# EAGLE library part LM43601PWPR (library SSW-130-01-G-S)
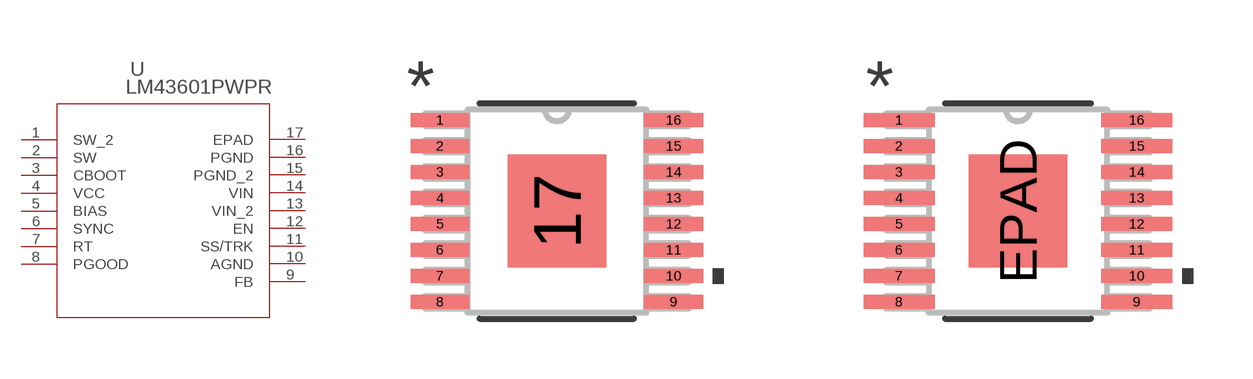
[diagram p11: symbol with the pads of PWP16_TEX; footprints PWP16_TEX, PWP16_TEX-M]

Designator prefix U

## LM43601PWPR (COPYRIGHT: Copyright (C) 2024 Ultra Librarian. All rights reserved.; MANUFACTURER_PART_NUMBER: LM43601PWPR; MFR_NAME: Texas Instruments)  [PWP16_TEX]
1  SW_2  out
2  SW  out
3  CBOOT  pas
4  VCC  pwr
5  BIAS  in
6  SYNC  in
7  RT  pas
8  PGOOD  out
9  FB  in
10  AGND  pwr
11  SS/TRK  pas
12  EN  in
13  VIN_2  in
14  VIN  in
15  PGND_2  pwr
16  PGND  pwr
17  EPAD  pas

## LM43601PWPRPWP16_TEX-M (COPYRIGHT: Copyright (C) 2024 Ultra Librarian. All rights reserved.; MANUFACTURER_PART_NUMBER: LM43601PWPR; MFR_NAME: Texas Instruments)  [PWP16_TEX-M]
1  SW_2  out
2  SW  out
3  CBOOT  pas
4  VCC  pwr
5  BIAS  in
6  SYNC  in
7  RT  pas
8  PGOOD  out
9  FB  in
10  AGND  pwr
11  SS/TRK  pas
12  EN  in
13  VIN_2  in
14  VIN  in
15  PGND_2  pwr
16  PGND  pwr
EPAD  EPAD  pas

## LM43601PWPRPWP16_TEX-L (COPYRIGHT: Copyright (C) 2024 Ultra Librarian. All rights reserved.; MANUFACTURER_PART_NUMBER: LM43601PWPR; MFR_NAME: Texas Instruments)  [PWP16_TEX-L]
Pads as for PWP16_TEX-M

## Footprint PWP16_TEX (pad centres in mm)
smd 1.473 x 0.356: 1 -2.921,2.275; 2 -2.921,1.625; 3 -2.921,0.975; 4 -2.921,0.325; 5 -2.921,-0.325; 6 -2.921,-0.975; 7 -2.921,-1.625; 8 -2.921,-2.275; 9 2.921,-2.275; 10 2.921,-1.625; 11 2.921,-0.975; 12 2.921,-0.325; 13 2.921,0.325; 14 2.921,0.975; 15 2.921,1.625; 16 2.921,2.275
smd 2.464 x 2.819: 17 0,0

## Footprint PWP16_TEX-M (pad centres in mm)
smd 1.778 x 0.356: 1 -2.972,2.275; 2 -2.972,1.625; 3 -2.972,0.975; 4 -2.972,0.325; 5 -2.972,-0.325; 6 -2.972,-0.975; 7 -2.972,-1.625; 8 -2.972,-2.275; 9 2.972,-2.275; 10 2.972,-1.625; 11 2.972,-0.975; 12 2.972,-0.325; 13 2.972,0.325; 14 2.972,0.975; 15 2.972,1.625; 16 2.972,2.275
smd 2.464 x 2.819: EPAD 0,0

## Footprint PWP16_TEX-L (pad centres in mm)
smd 1.168 x 0.305: 1 -2.87,2.275; 2 -2.87,1.625; 3 -2.87,0.975; 4 -2.87,0.325; 5 -2.87,-0.325; 6 -2.87,-0.975; 7 -2.87,-1.625; 8 -2.87,-2.275; 9 2.87,-2.275; 10 2.87,-1.625; 11 2.87,-0.975; 12 2.87,-0.325; 13 2.87,0.325; 14 2.87,0.975; 15 2.87,1.625; 16 2.87,2.275
smd 2.464 x 2.819: EPAD 0,0